# EAGLE library part KSZ8873MML (library Micrel)
Integrated 3 port 10/100 managed switch
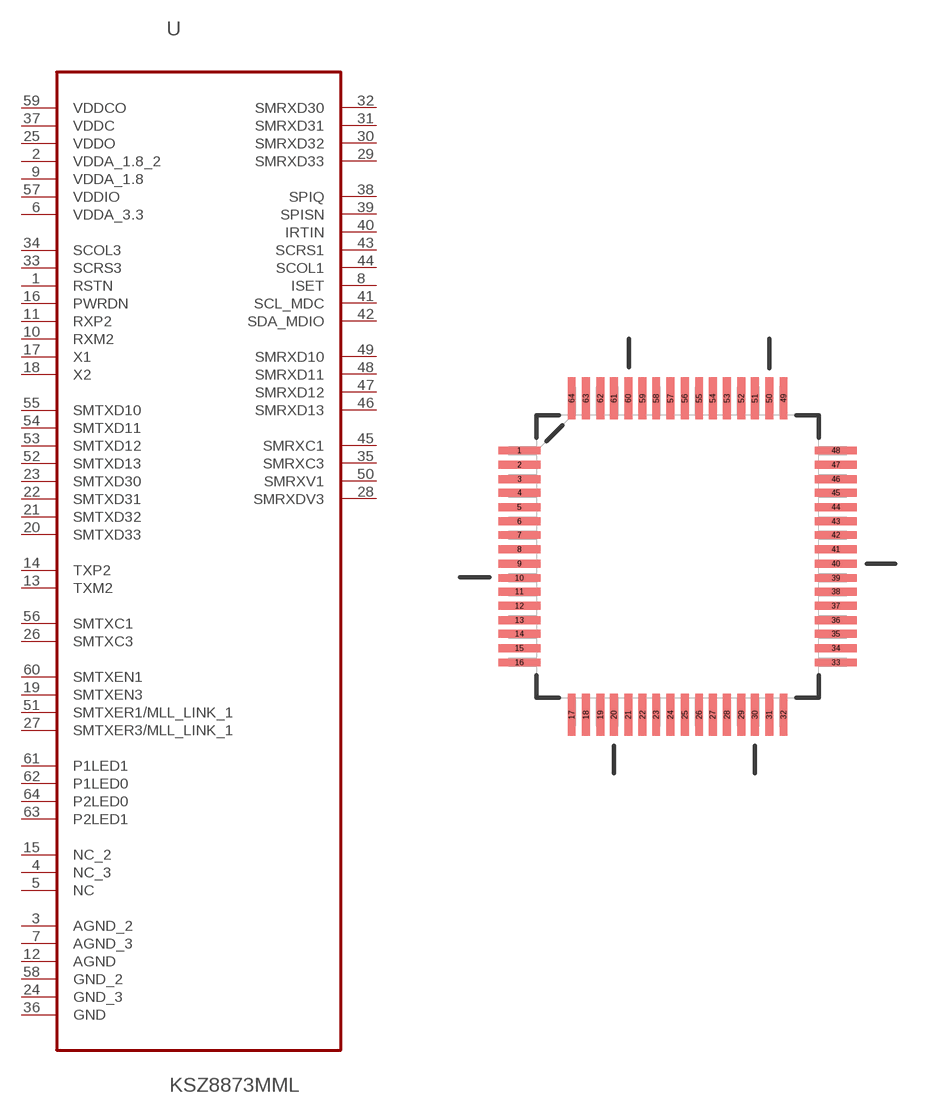
[diagram p2: symbol with the pads of QFP50P1200X1200X160-64N; footprint QFP50P1200X1200X160-64N]

Designator prefix U

## KSZ8873MML (MPN: KSZ8873MML; OC_FARNELL: 1864785; OC_NEWARK: 27T5797; PACKAGE: LQFP-64; SUPPLIER: MICREL SEMICONDUCTOR)  [QFP50P1200X1200X160-64N]
1  RSTN
2  VDDA_1.8_2  in
3  AGND_2
4  NC_3  in
5  NC  in
6  VDDA_3.3  in
7  AGND_3  in
8  ISET
9  VDDA_1.8
10  RXM2
11  RXP2
12  AGND  pwr
13  TXM2  in
14  TXP2  in
15  NC_2  in
16  PWRDN  in
17  X1  in
18  X2  in
19  SMTXEN3  in
20  SMTXD33  in
21  SMTXD32  in
22  SMTXD31  in
23  SMTXD30  in
24  GND_3  pas
25  VDDO  in
26  SMTXC3  in
27  SMTXER3/MLL_LINK_1  in
28  SMRXDV3  out
29  SMRXD33  out
30  SMRXD32  out
31  SMRXD31  out
32  SMRXD30  out
33  SCRS3  in
34  SCOL3  in
35  SMRXC3  out
36  GND  in
37  VDDC  in
38  SPIQ  out
39  SPISN  out
40  IRTIN  out
41  SCL_MDC  out
42  SDA_MDIO  out
43  SCRS1  pas
44  SCOL1  pas
45  SMRXC1  out
46  SMRXD13  out
47  SMRXD12  out
48  SMRXD11  out
49  SMRXD10  out
50  SMRXV1  out
51  SMTXER1/MLL_LINK_1  out
52  SMTXD13  out
53  SMTXD12  out
54  SMTXD11  out
55  SMTXD10  out
56  SMTXC1  out
57  VDDIO  in
58  GND_2  pas
59  VDDCO  out
60  SMTXEN1  in
61  P1LED1  in
62  P1LED0  in
63  P2LED1  in
64  P2LED0  in

## Footprint QFP50P1200X1200X160-64N (pad centres in mm)
smd 1.473 x 0.279: 1 -5.613,3.759; 2 -5.613,3.251; 3 -5.613,2.743; 4 -5.613,2.261; 5 -5.613,1.753; 6 -5.613,1.245; 7 -5.613,0.762; 8 -5.613,0.254; 9 -5.613,-0.254; 10 -5.613,-0.762; 11 -5.613,-1.245; 12 -5.613,-1.753; 13 -5.613,-2.261; 14 -5.613,-2.743; 15 -5.613,-3.251; 16 -5.613,-3.759; 33 5.613,-3.759; 34 5.613,-3.251; 35 5.613,-2.743; 36 5.613,-2.261; 37 5.613,-1.753; 38 5.613,-1.245; 39 5.613,-0.762; 40 5.613,-0.254; 41 5.613,0.254; 42 5.613,0.762; 43 5.613,1.245; 44 5.613,1.753; 45 5.613,2.261; 46 5.613,2.743; 47 5.613,3.251; 48 5.613,3.759
smd 0.279 x 1.473: 17 -3.759,-5.613; 18 -3.251,-5.613; 19 -2.743,-5.613; 20 -2.261,-5.613; 21 -1.753,-5.613; 22 -1.245,-5.613; 23 -0.762,-5.613; 24 -0.254,-5.613; 25 0.254,-5.613; 26 0.762,-5.613; 27 1.245,-5.613; 28 1.753,-5.613; 29 2.261,-5.613; 30 2.743,-5.613; 31 3.251,-5.613; 32 3.759,-5.613; 49 3.759,5.613; 50 3.251,5.613; 51 2.743,5.613; 52 2.261,5.613; 53 1.753,5.613; 54 1.245,5.613; 55 0.762,5.613; 56 0.254,5.613; 57 -0.254,5.613; 58 -0.762,5.613; 59 -1.245,5.613; 60 -1.753,5.613; 61 -2.261,5.613; 62 -2.743,5.613; 63 -3.251,5.613; 64 -3.759,5.613